# EAGLE library part HEADER_POS16_? (library IIT_BOMBAY_Racing)
Molex - Micro-Fit 3.0 Series connector, 3.00mm (0.118") pitch header, 16 positions.
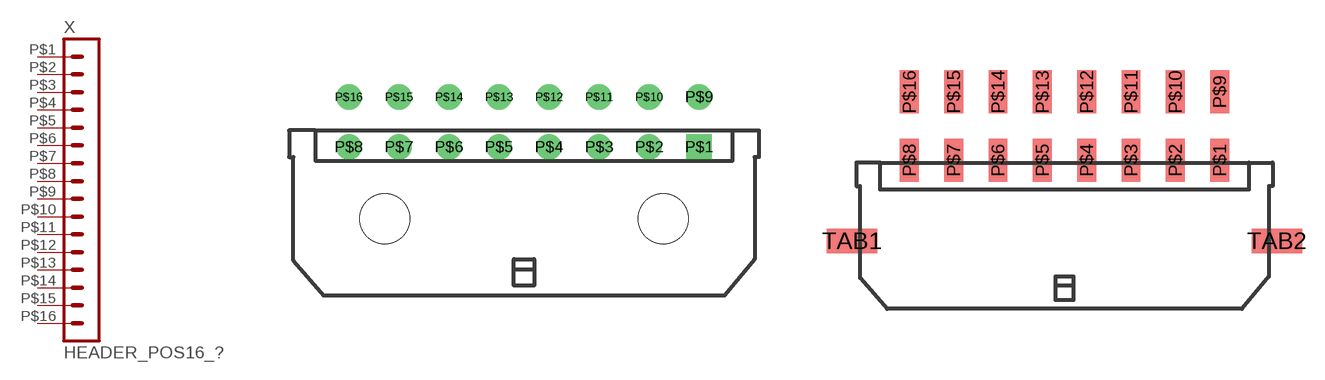
[diagram p53: symbol with the pads of 43045-1600; footprints 43045-1600, 43045-1609]

Designator prefix X

## HEADER_POS16_43045-1600  [43045-1600]
P$1  1  pas
P$2  2  pas
P$3  3  pas
P$4  4  pas
P$5  5  pas
P$6  6  pas
P$7  7  pas
P$8  8  pas
P$9  9  pas
P$10  10  pas
P$11  11  pas
P$12  12  pas
P$13  13  pas
P$14  14  pas
P$15  15  pas
P$16  16  pas

## HEADER_POS16_43045-1609  [43045-1609]
Pads as for 43045-1600

## HEADER_POS16_43045-1606  [43045-1606]
Pads as for 43045-1600

## HEADER_POS16_43045-1612  [43045-1612]
Pads as for 43045-1600

## HEADER_POS16_43045-1615  [43045-1615]
Pads as for 43045-1600

## HEADER_POS16_43045-1618  [43045-1618]
Pads as for 43045-1600

## HEADER_POS16_44914-1601  [44914-1601]
Pads as for 43045-1600

## HEADER_POS16_44769-1601  [44769-1601]
Pads as for 43045-1600

## HEADER_POS16_44432-1601  [44432-1601]
Pads as for 43045-1600

## HEADER_POS16_44428-1601  [44428-1601]
Pads as for 43045-1600

## HEADER_POS16_44764-1601  [44764-1601]
Pads as for 43045-1600

## Footprint 43045-1600 (pad centres in mm)
Molex Micro-Fit 3.0 - Header Shrouded, Thru hole, Right Angle; P/N: SD-43045-1600, SD-43045-1601, SD-43045-1602 http://www.molex.com/pdm_docs/sd/430450200_sd.pdf
drill 1.02 square: P$1 10.5,4.32
drill 1.02: P$2 7.5,4.32; P$3 4.5,4.32; P$4 1.5,4.32; P$5 -1.5,4.32; P$6 -4.5,4.32; P$7 -7.5,4.32; P$8 -10.5,4.32; P$9 10.5,7.32; P$10 7.5,7.32; P$11 4.5,7.32; P$12 1.5,7.32; P$13 -1.5,7.32; P$14 -4.5,7.32; P$15 -7.5,7.32; P$16 -10.5,7.32
hole 3 at 8.35,0
hole 3 at -8.35,0

## Footprint 43045-1609 (pad centres in mm)
Molex Micro-Fit 3.0 - Header Shrouded, Surface mount, Right Angle, Solderable tabs; P/N: SD-43045-1609, SD-43045-1610, SD-43045-1611 http://www.molex.com/pdm_docs/sd/430450209_sd.pdf
smd 1.27 x 2.92: P$1 10.5,5.47; P$2 7.5,5.47; P$3 4.5,5.47; P$4 1.5,5.47; P$5 -1.5,5.47; P$6 -4.5,5.47; P$7 -7.5,5.47; P$8 -10.5,5.47; P$9 10.5,10.1; P$10 7.5,10.1; P$11 4.5,10.1; P$12 1.5,10.1; P$13 -1.5,10.1; P$14 -4.5,10.1; P$15 -7.5,10.1; P$16 -10.5,10.1
smd 3.43 x 1.65: TAB1 -14.38,0; TAB2 14.38,0

## Footprint 43045-1606 (pad centres in mm)
Molex Micro-Fit 3.0 - Header Shrouded, Surface mount, Right Angle, Solderable Retention clips; P/N: SD-43045-1606, SD-43045-1607, SD-43045-1608 http://www.molex.com/pdm_docs/sd/430450206_sd.pdf
smd 1.27 x 2.92: P$1 10.5,5.47; P$2 7.5,5.47; P$3 4.5,5.47; P$4 1.5,5.47; P$5 -1.5,5.47; P$6 -4.5,5.47; P$7 -7.5,5.47; P$8 -10.5,5.47; P$9 10.5,10.1; P$10 7.5,10.1; P$11 4.5,10.1; P$12 1.5,10.1; P$13 -1.5,10.1; P$14 -4.5,10.1; P$15 -7.5,10.1; P$16 -10.5,10.1
hole 2.41 at -12.65,0
hole 2.41 at 12.65,0

## Footprint 43045-1612 (pad centres in mm)
Molex Micro-Fit 3.0 - Header Shrouded, Thru hole, Vertical, with Pegs; P/N: SD-43045-1612, SD-43045-1613, SD-43045-1614 http://www.molex.com/pdm_docs/sd/430450212_sd.pdf
drill 1.02 square: P$1 10.5,0
drill 1.02: P$2 7.5,0; P$3 4.5,0; P$4 1.5,0; P$5 -1.5,0; P$6 -4.5,0; P$7 -7.5,0; P$8 -10.5,0; P$9 10.5,3; P$10 7.5,3; P$11 4.5,3; P$12 1.5,3; P$13 -1.5,3; P$14 -4.5,3; P$15 -7.5,3; P$16 -10.5,3
hole 1.02 at 13.5,3.94
hole 1.02 at -13.5,3.94

## Footprint 43045-1615 (pad centres in mm)
Molex Micro-Fit 3.0 - Header Shrouded, Surface mount, Vertical, with Solderable Retention Clips; P/N: SD-43045-1615, SD-43045-1616, SD-43045-1617 http://www.molex.com/pdm_docs/sd/430450215_sd.pdf
smd 1.27 x 2.54: P$1 10.5,-4.7; P$2 7.5,-4.7; P$3 4.5,-4.7; P$4 1.5,-4.7; P$5 -1.5,-4.7; P$6 -4.5,-4.7; P$7 -7.5,-4.7; P$8 -10.5,-4.7; P$9 10.5,4.7; P$10 7.5,4.7; P$11 4.5,4.7; P$12 1.5,4.7; P$13 -1.5,4.7; P$14 -4.5,4.7; P$15 -7.5,4.7; P$16 -10.5,4.7
hole 2.41 at -12.65,0
hole 2.41 at 12.65,0

## Footprint 43045-1618 (pad centres in mm)
Molex Micro-Fit 3.0 - Header Shrouded, Surface mount, Vertical, with Solder Tabs; P/N: SD-43045-1618, SD-43045-1619, SD-43045-1620 http://www.molex.com/pdm_docs/sd/430450218_sd.pdf
smd 3.43 x 1.65: CLIP1 -14.38,0; CLIP2 14.38,0
smd 1.27 x 2.54: P$1 10.5,-4.7; P$2 7.5,-4.7; P$3 4.5,-4.7; P$4 1.5,-4.7; P$5 -1.5,-4.7; P$6 -4.5,-4.7; P$7 -7.5,-4.7; P$8 -10.5,-4.7; P$9 10.5,4.7; P$10 7.5,4.7; P$11 4.5,4.7; P$12 1.5,4.7; P$13 -1.5,4.7; P$14 -4.5,4.7; P$15 -7.5,4.7; P$16 -10.5,4.7

## Footprint 44914-1601 (pad centres in mm)
Molex Micro-Fit 3.0 - Header Shrouded, Thru hole, Vertical, Press-fit, with Pegs; P/N: SD-44914-1601, SD-44914-1602, SD-44914-1603 http://www.molex.com/pdm_docs/sd/449140201_sd.pdf
drill 1.09 square: P$1 10.5,0
drill 1.09: P$2 7.5,0; P$3 4.5,0; P$4 1.5,0; P$5 -1.5,0; P$6 -4.5,0; P$7 -7.5,0; P$8 -10.5,0; P$9 10.5,3; P$10 7.5,3; P$11 4.5,3; P$12 1.5,3; P$13 -1.5,3; P$14 -4.5,3; P$15 -7.5,3; P$16 -10.5,3
hole 1.02 at 13.5,3.94
hole 1.02 at -13.5,3.94

## Footprint 44769-1601 (pad centres in mm)
Molex Micro-Fit 3.0 - Board-to-Board BMI (Blind Mate Interface), Receptacle Vertical, Thru hole; P/N: SD-44769-1601, SD-44769-1602, SD-44769-1603 http://www.molex.com/pdm_docs/sd/447690401_sd.pdf
drill 1.02 square: P$1 -10.5,0
drill 1.02: P$2 -7.5,0; P$3 -4.5,0; P$4 -1.5,0; P$5 1.5,0; P$6 4.5,0; P$7 7.5,0; P$8 10.5,0; P$9 -10.5,3; P$10 -7.5,3; P$11 -4.5,3; P$12 -1.5,3; P$13 1.5,3; P$14 4.5,3; P$15 7.5,3; P$16 10.5,3
hole 2.36 at 13.5,3
hole 2.36 at -13.5,3

## Footprint 44432-1601 (pad centres in mm)
Molex Micro-Fit 3.0 - Board-to-Board BMI (Blind Mate Interface), Header Vertical, Thru hole, with Pegs; P/N: SD-44432-1601, SD-44432-1602, SD-44432-1603 http://www.molex.com/pdm_docs/sd/444320401_sd.pdf
drill 1.02 square: P$1 10.5,-3
drill 1.02: P$2 7.5,-3; P$3 4.5,-3; P$4 1.5,-3; P$5 -1.5,-3; P$6 -4.5,-3; P$7 -7.5,-3; P$8 -10.5,-3; P$9 10.5,0; P$10 7.5,0; P$11 4.5,0; P$12 1.5,0; P$13 -1.5,0; P$14 -4.5,0; P$15 -7.5,0; P$16 -10.5,0
hole 1.57 at -15,1.45
hole 1.57 at 15,1.45

## Footprint 44428-1601 (pad centres in mm)
Molex Micro-Fit 3.0 - Board-to-Board BMI (Blind Mate Interface), Header Right Angle, Thru hole, with Pegs; P/N: SD-44428-1601, SD-44428-1602, SD-44428-1603 http://www.molex.com/pdm_docs/sd/444280401_sd.pdf
drill 1.02 square: P$1 10.5,0
drill 1.02: P$2 7.5,0; P$3 4.5,0; P$4 1.5,0; P$5 -1.5,0; P$6 -4.5,0; P$7 -7.5,0; P$8 -10.5,0; P$9 10.5,3; P$10 7.5,3; P$11 4.5,3; P$12 1.5,3; P$13 -1.5,3; P$14 -4.5,3; P$15 -7.5,3; P$16 -10.5,3
hole 3 at 8.34,-8.53
hole 3 at -8.34,-8.53

## Footprint 44764-1601 (pad centres in mm)
Molex Micro-Fit 3.0 - Board-to-Board BMI (Blind Mate Interface), Receptacle, Right Angle, Thru hole; P/N: SD-44764-1601, SD-44764-1602, SD-44764-1603 http://www.molex.com/pdm_docs/sd/447640401_sd.pdf
drill 1.02 square: P$1 -10.5,0
drill 1.02: P$2 -7.5,0; P$3 -4.5,0; P$4 -1.5,0; P$5 1.5,0; P$6 4.5,0; P$7 7.5,0; P$8 10.5,0; P$9 -10.5,3; P$10 -7.5,3; P$11 -4.5,3; P$12 -1.5,3; P$13 1.5,3; P$14 4.5,3; P$15 7.5,3; P$16 10.5,3
hole 2.36 at -9,-3.05
hole 2.36 at 9,-3.05